# EAGLE library part 750313626 (library isystems-würth)
Würth Elektronik / Midcom 750313626 Fly-Buck Transformer 1:2 3.3V In 5V Out
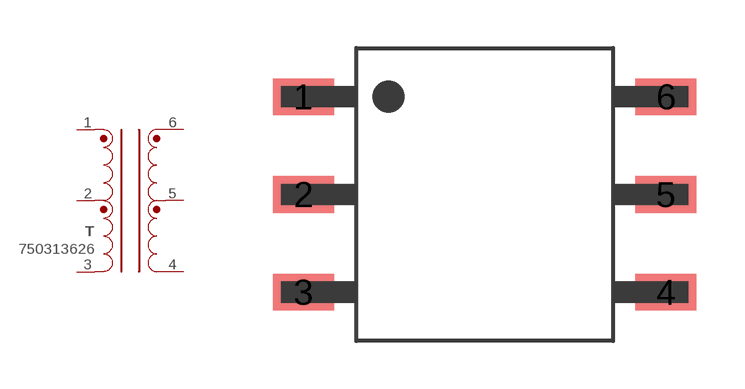
[diagram p2: symbol with the pads of SN6501HV; footprint SN6501HV]

Designator prefix T

## 750313626  [SN6501HV]
1  1
2  2
3  3
4  4
5  5
6  6

## Footprint SN6501HV (pad centres in mm)
Würth Elektronik / Midcom SN6501HV Package Based on 750313626 Datasheet
smd 1.9 x 1.14: 1 -5.655,3.05; 2 -5.655,0; 3 -5.655,-3.05; 4 5.655,-3.05; 5 5.655,0; 6 5.655,3.05